# EAGLE library part RELAIS_WWWW (library pkess_schuetze-relais)
Relais 4 Wechsler
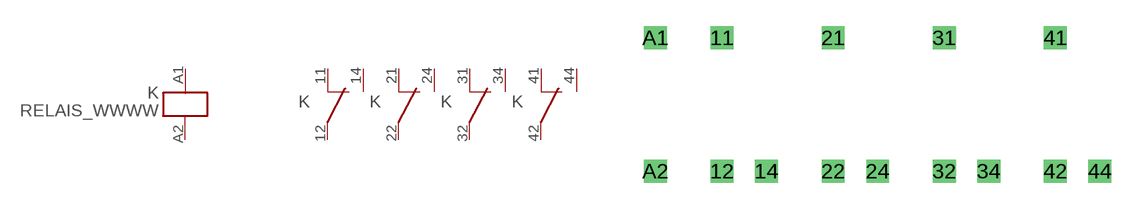
[diagram p9: symbol with the pads of GENERIC_RELAIS_WWWW; footprint GENERIC_RELAIS_WWWW]

Designator prefix K; gates G$1=SPULE G$2=KONTAKT_WECHSLER G$3=KONTAKT_WECHSLER G$4=KONTAKT_WECHSLER G$5=KONTAKT_WECHSLER

## RELAIS_WWWW  [GENERIC_RELAIS_WWWW]
11  G$2:1  pas
12  G$2:2  pas
14  G$2:3  pas
21  G$3:1  pas
22  G$3:2  pas
24  G$3:3  pas
31  G$4:1  pas
32  G$4:2  pas
34  G$4:3  pas
41  G$5:1  pas
42  G$5:2  pas
44  G$5:3  pas
A1  G$1:A1  in
A2  G$1:A2  in

## Footprint GENERIC_RELAIS_WWWW (pad centres in mm)
drill 0.8 square: 11 3.81,3.81; 12 3.81,-3.81; 14 6.35,-3.81; 21 10.16,3.81; 22 10.16,-3.81; 24 12.7,-3.81; 31 16.51,3.81; 32 16.51,-3.81; 34 19.05,-3.81; 41 22.86,3.81; 42 22.86,-3.81; 44 25.4,-3.81; A1 0,3.81; A2 0,-3.81